# Altium schematic symbol library Motor Servo.Schlib: 1 symbol
Pins are listed as number, name and electrical type; pins without a type are passive.

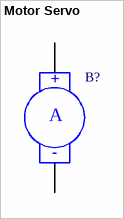
[diagram p0: symbol Motor Servo]

## Motor Servo
designator B?
Servo Motor
pins: 1 +, 2 -
text: A